# Altium footprint library PCB - POWER INDUCTORS - WURTH WE-XHMI 8080.PcbLib: 1 footprints
Each footprint in its own frame and in the unit in brackets; x right, y up, seen from the top. Pads: shape width x height; smd on the part's side, far side on the other; paste and mask are expansions set on the pad; w line width, h text height; cw(c..) or ccw(c..) is an arc to the next point about the centre after c.
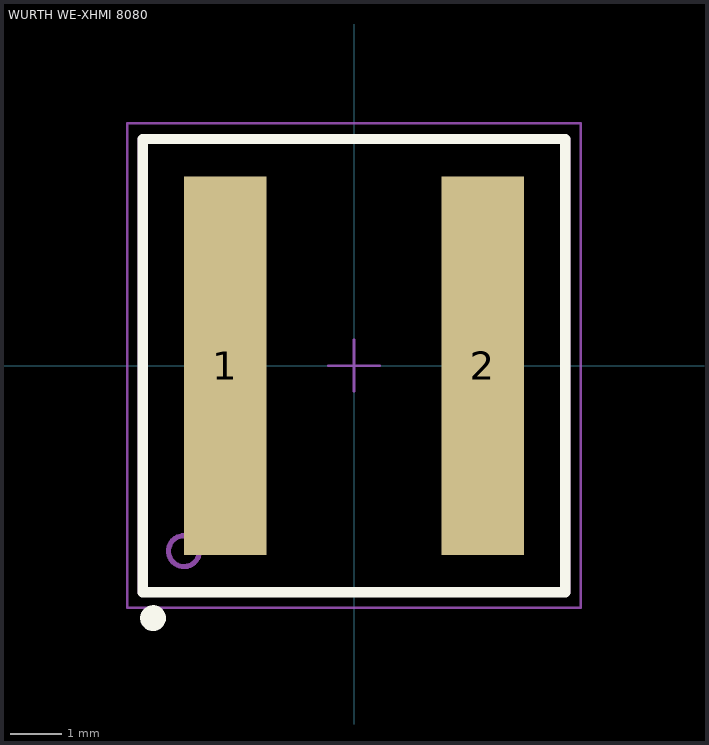
[diagram p0: the footprint, top view; thin cyan lines are the x and y axes]

## WURTH WE-XHMI 8080 [mm] "SMT Power Inductor, 2-Leads, body 8.8x8.3mm"
height 7.8
pads (2):
  rect 1.6x7.35 smd: 1(-2.5,0) 2(2.5,0)
Top Overlay:
  circle w0.25: c-3.9,-4.9 r0.125
  lines w0.2: -4.1,-4.4 4.1,-4.4 4.1,4.4 -4.1,4.4 -4.1,-4.4
Top Assembly:
  circle w0.1: c-3.3,-3.6 r0.3
  lines w0.05: -0.5,0 0.5,0 ; 0,-0.5 0,0.5
  lines w0.1: -4.15,-4.4 4.15,-4.4 4.15,4.4 -4.15,4.4 -4.15,-4.4
Top Component Outline:
  circle w0.1: c-3.3,-3.6 r0.3
  lines w0.1: -4.15,-4.4 -4.15,4.4 4.15,4.4 4.15,-4.4 -4.15,-4.4
Top Courtyard:
  lines w0.05: -4.4,-4.7 -4.4,4.7 4.4,4.7 4.4,-4.7 -4.4,-4.7
3D body "74439358xxx.stp": height 7.8, standoff 0, extent -4.15,-4.4 4.15,4.4